# EAGLE library part LSM9DS0 (library DanielKnapp-lab4)
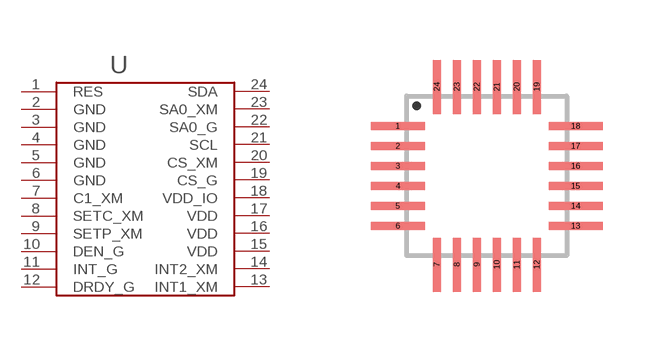
[diagram p0: symbol with the pads of LSM9DS0; footprint LSM9DS0]

Designator prefix U

## LSM9DS0 (CREATOR: Daniel Knapp; DIST: Digikey)  [LSM9DS0]
1  RES
2  GND
3  GND
4  GND
5  GND
6  GND
7  C1_XM
8  SETC_XM
9  SETP_XM
10  DEN_G
11  INT_G
12  DRDY_G
13  INT1_XM
14  INT2_XM
15  VDD
16  VDD
17  VDD
18  VDD_IO
19  CS_G
20  CS_XM
21  SCL
22  SA0_G
23  SA0_XM
24  SDA

## Footprint LSM9DS0 (pad centres in mm)
smd 1.35 x 0.2: 1 -2.225,1.25; 2 -2.225,0.75; 3 -2.225,0.25; 4 -2.225,-0.25; 5 -2.225,-0.75; 6 -2.225,-1.25; 13 2.225,-1.25; 14 2.225,-0.75; 15 2.225,-0.25; 16 2.225,0.25; 17 2.225,0.75; 18 2.225,1.25
smd 0.2 x 1.35: 7 -1.25,-2.225; 8 -0.75,-2.225; 9 -0.25,-2.225; 10 0.25,-2.225; 11 0.75,-2.225; 12 1.25,-2.225; 19 1.25,2.225; 20 0.75,2.225; 21 0.25,2.225; 22 -0.25,2.225; 23 -0.75,2.225; 24 -1.25,2.225